# EAGLE library part ATMEGA328P-AU (library 1_domaci)
8-bit Microcontroller with In-System Programmable Flash
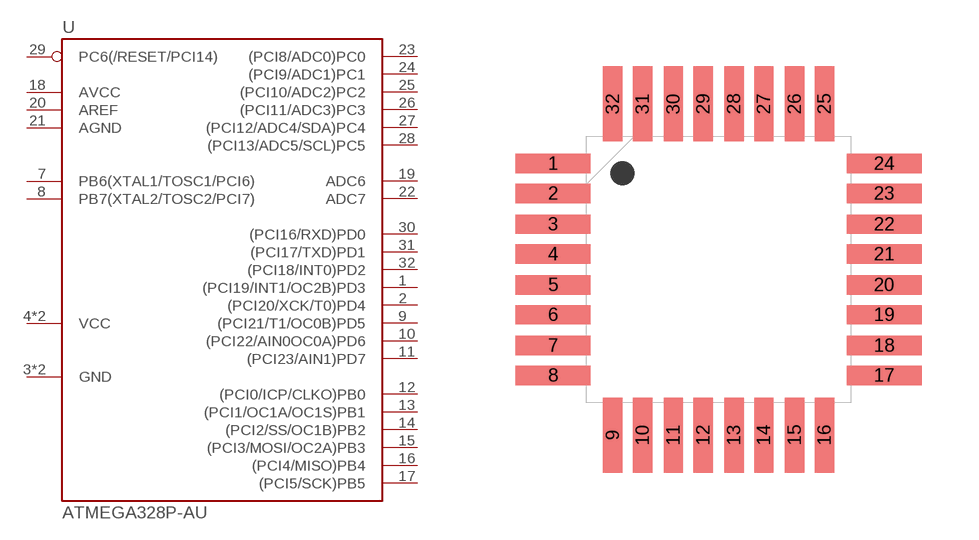
[diagram p14: symbol with the pads of QFP80P900X900X120-32N; footprint QFP80P900X900X120-32N]

Designator prefix U

## ATMEGA328P-AU  [QFP80P900X900X120-32N]
1  (PCI19/INT1/OC2B)PD3
2  (PCI20/XCK/T0)PD4
3  GND
4  VCC
5  GND
6  VCC
7  PB6(XTAL1/TOSC1/PCI6)
8  PB7(XTAL2/TOSC2/PCI7)
9  (PCI21/T1/OC0B)PD5
10  (PCI22/AIN0OC0A)PD6
11  (PCI23/AIN1)PD7
12  (PCI0/ICP/CLKO)PB0
13  (PCI1/OC1A/OC1S)PB1
14  (PCI2/SS/OC1B)PB2
15  (PCI3/MOSI/OC2A)PB3
16  (PCI4/MISO)PB4
17  (PCI5/SCK)PB5
18  AVCC
19  ADC6
20  AREF
21  AGND
22  ADC7
23  (PCI8/ADC0)PC0
24  (PCI9/ADC1)PC1
25  (PCI10/ADC2)PC2
26  (PCI11/ADC3)PC3
27  (PCI12/ADC4/SDA)PC4
28  (PCI13/ADC5/SCL)PC5
29  PC6(/RESET/PCI14)
30  (PCI16/RXD)PD0
31  (PCI17/TXD)PD1
32  (PCI18/INT0)PD2

## Footprint QFP80P900X900X120-32N (pad centres in mm)
smd 1.981 x 0.508: 1 -4.369,2.794; 2 -4.369,2.007; 3 -4.369,1.194; 4 -4.369,0.406; 5 -4.369,-0.406; 6 -4.369,-1.194; 7 -4.369,-2.007; 8 -4.369,-2.794; 17 4.369,-2.794; 18 4.369,-2.007; 19 4.369,-1.194; 20 4.369,-0.406; 21 4.369,0.406; 22 4.369,1.194; 23 4.369,2.007; 24 4.369,2.794
smd 0.508 x 1.981: 9 -2.794,-4.369; 10 -2.007,-4.369; 11 -1.194,-4.369; 12 -0.406,-4.369; 13 0.406,-4.369; 14 1.194,-4.369; 15 2.007,-4.369; 16 2.794,-4.369; 25 2.794,4.369; 26 2.007,4.369; 27 1.194,4.369; 28 0.406,4.369; 29 -0.406,4.369; 30 -1.194,4.369; 31 -2.007,4.369; 32 -2.794,4.369